# EAGLE library part 74573 (library ArdDisp)
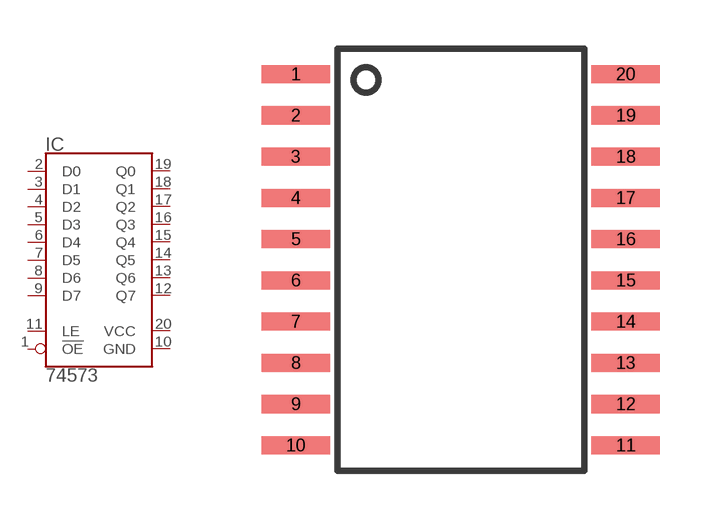
[diagram p10: symbol with the pads of SO20W; footprint SO20W]

Designator prefix IC

## 74573-SO20W  [SO20W]
1  !OE  in
2  D0  in
3  D1  in
4  D2  in
5  D3  in
6  D4  in
7  D5  in
8  D6  in
9  D7  in
10  GND
11  LE  in
12  Q7  hiz
13  Q6  hiz
14  Q5  hiz
15  Q4  hiz
16  Q3  hiz
17  Q2  hiz
18  Q1  hiz
19  Q0  hiz
20  VCC

## Footprint SO20W (pad centres in mm)
Pady jsou v mil/12.5
smd 2.108 x 0.559: 1 -5.08,5.715; 2 -5.08,4.445; 3 -5.08,3.175; 4 -5.08,1.905; 5 -5.08,0.635; 6 -5.08,-0.635; 7 -5.08,-1.905; 8 -5.08,-3.175; 9 -5.08,-4.445; 10 -5.08,-5.715; 11 5.08,-5.715; 12 5.08,-4.445; 13 5.08,-3.175; 14 5.08,-1.905; 15 5.08,-0.635; 16 5.08,0.635; 17 5.08,1.905; 18 5.08,3.175; 19 5.08,4.445; 20 5.08,5.715